# Altium schematic symbol library DIODE,Zener,3.43V,500mW,SMD.Schlib: 1 symbol
Pins are listed as number, name and electrical type; pins without a type are passive.

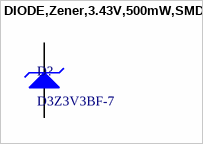
[diagram p0: symbol DIODE,Zener,3.43V,500mW,SMD]

## DIODE,Zener,3.43V,500mW,SMD
designator D?, comment D3Z3V3BF-7
Zener Diode 3.43 V 400 mW ±3% Surface Mount SOD-323F
pins: 1 K, 2 A